# Altium footprint library Connectors.PcbLib: 65 footprints (part 5 of 5)
Each footprint in its own frame and in the unit in brackets; x right, y up, seen from the top. Pads: shape width x height; smd on the part's side, far side on the other; paste and mask are expansions set on the pad; w line width, h text height; cw(c..) or ccw(c..) is an arc to the next point about the centre after c.
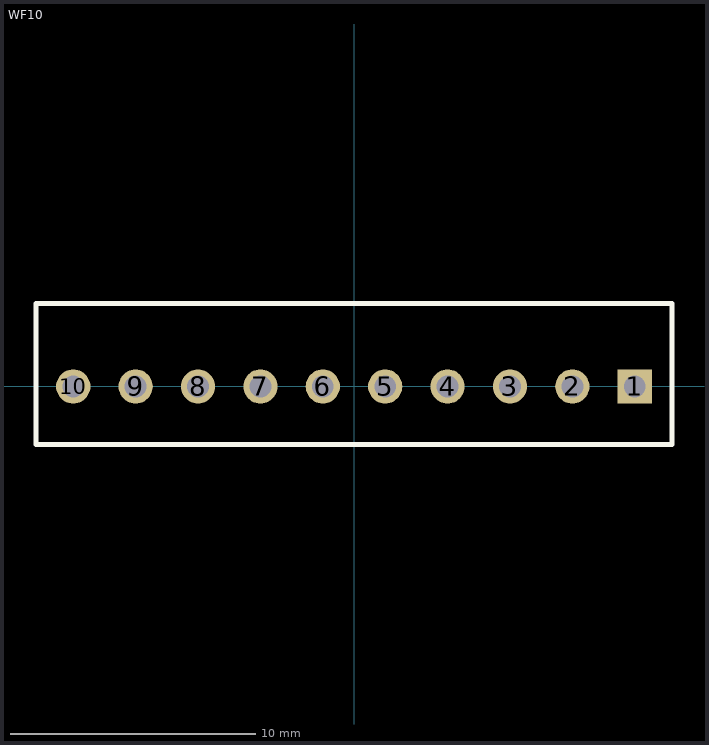
[diagram p4: the footprint, top view; thin cyan lines are the x and y axes]

## WF10 [mil]
pads (10):
  rect 55x55 hole 35 mask+4: 1(450,0)
  round 55 hole 35 mask+4: 2(350,0) 3(250,0) 4(150,0) 5(50,0) 6(-50,0) 7(-150,0) 8(-250,0) 9(-350,0) 10(-450,0)
Top Overlay:
  lines w8: -510,-93 -510,133 510,133 510,-93 -510,-93
Mechanical 1:
  lines w4: -510,-93 -510,133 510,133 510,-93 -510,-93